# Altium schematic symbol library SCH_Passive.SchLib: 24 symbols
Pins are listed as number, name and electrical type; pins without a type are passive.

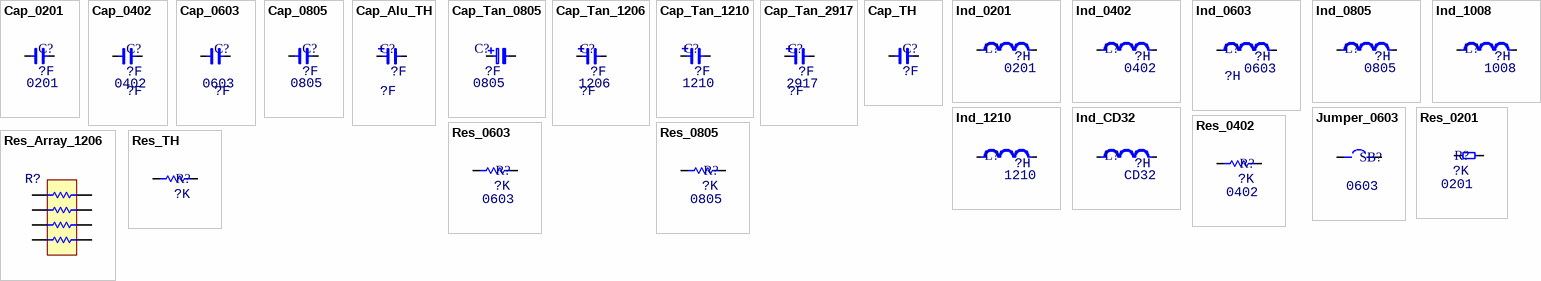
[diagram p0: symbols Cap_0201 to Res_TH]

## Cap_0201
designator C?, comment Type: 0201  (hidden comment: ?F)
Capacitor; Value: ?F
footprint Cap_0201
pins: 1, 2

## Cap_0402
designator C?, comment ?F  Type: 0402
Capacitor; Value: ?F
footprint CAP_0402
pins: 1, 2

## Cap_0603
designator C?, comment ?F  Type: 0603
Capacitor; Value: ?F
footprint CAP_0603
pins: 1, 2

## Cap_0805
designator C?, comment Type: 0805  (hidden comment: ?F)
Capacitor; Value: ?F
footprint CAP_0805
pins: 1, 2

## Cap_Alu_TH
designator C?, comment ?F
Capacitor Tantalum; Value: ?F
footprint CAP_ALUMI_TH
pins: 1, 2
1 alternate drawing of the same symbol

## Cap_Tan_0805
designator C?, comment Type: 0805  (hidden comment: ?F)
Capacitor Tantalum; Value: ?F
footprint CAP_TAN_P0805
pins: 1, 2
1 alternate drawing of the same symbol

## Cap_Tan_1206
designator C?, comment ?F  Type: 1206
Capacitor Tantalum; Value: ?F
footprint CAP_TAN_A1206
pins: 1, 2
1 alternate drawing of the same symbol

## Cap_Tan_1210
designator C?, comment Type: 1210  (hidden comment: ?F)
Capacitor Tantalum; Value: ?F
footprint CAP_TAN_B1210
pins: 1, 2
1 alternate drawing of the same symbol

## Cap_Tan_2917
designator C?, comment ?F  Type: 2917
Capacitor Tantalum; Value: ?F
footprint CAP_TAN_D2917
pins: 1, 2
1 alternate drawing of the same symbol

## Cap_TH
designator C?, comment ?F
Capacitor; Value: ?F
footprint RES_TH
pins: 1, 2

## Ind_0201
designator L?, comment Type: 0201  (hidden comment: ?H)
Inductor; Value: ?H
footprint IND_0201
pins: 1, 2

## Ind_0402
designator L?, comment Type: 0402  (hidden comment: ?H)
Inductor; Value: ?H
footprint IND_0402
pins: 1, 2

## Ind_0603
designator L?, comment ?H  Type: 0603
Inductor; Value: ?H
footprint IND_0603
pins: 1, 2

## Ind_0805
designator L?, comment Type: 0805  (hidden comment: ?H)
Inductor; Value: ?H
footprint IND_0805
pins: 1, 2

## Ind_1008
designator L?, comment Type: 1008  (hidden comment: ?H)
Inductor; Value: ?H
footprint IND_1008
pins: 1, 2

## Ind_1210
designator L?, comment Type: 1210  (hidden comment: ?H)
Inductor; Value: ?H
footprint IND_1210
pins: 1, 2

## Ind_CD32
designator L?, comment Type: CD32  (hidden comment: ?H)
Inductor; Value: ?H
footprint IND_CD32
pins: 1, 2

## Jumper_0603
designator SB?  Type: 0603
Jumper; Value: ?K
footprint RES_0603
pins: 1, 2

## Res_0201
designator R?, comment Type: 0201  (hidden comment: ?K)
Resistor; Value: ?K
footprint Res_0201
pins: 1, 2

## Res_0402
designator R?, comment Type: 0402  (hidden comment: ?K)
Resistor; Value: ?K
footprint RES_0402
pins: 1, 2

## Res_0603
designator R?, comment Type: 0603  (hidden comment: ?K)
Resistor; Value: ?K
footprint RES_0603
pins: 1, 2

## Res_0805
designator R?, comment Type: 0805  (hidden comment: ?K)
Resistor; Value: ?K
footprint RES_0805
pins: 1, 2

## Res_Array_1206
designator R?
Resistor Array 0603x4
footprint RES_ARRAY_1206 (0603x4)
pins: 1, 2, 3 31, 4 1, 5 2, 6 2, 7 2, 8 2

## Res_TH
designator R?, comment ?K
Resistor; Value: ?K
footprint RES_TH
pins: 1, 2